# EAGLE library part LT1962 (library BrownSpaceEngineering)
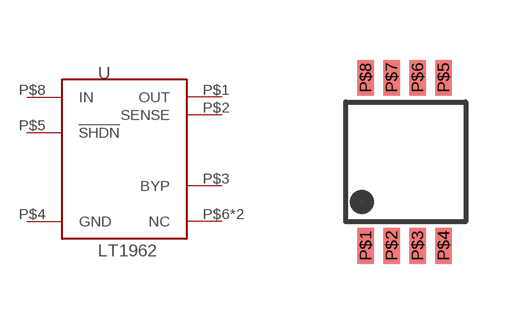
[diagram p30: symbol with the pads of MSOP-8; footprint MSOP-8]

Designator prefix U

## LT1962-3  [MSOP-8]
P$1  OUT
P$2  SENSE
P$3  BYP
P$4  GND
P$5  !SHDN!
P$6  NC
P$7  NC
P$8  IN

## LT1962-5  [MSOP-8]
Pads as for MSOP-8

## Footprint MSOP-8 (pad centres in mm)
smd 0.42 x 0.89: P$1 0,0; P$2 0.65,0; P$3 1.3,0; P$4 1.95,0; P$5 1.95,4.21; P$6 1.3,4.21; P$7 0.65,4.21; P$8 0,4.21